# EAGLE library part MCP41010-I/SN (library userlib)
Digital potentiometer
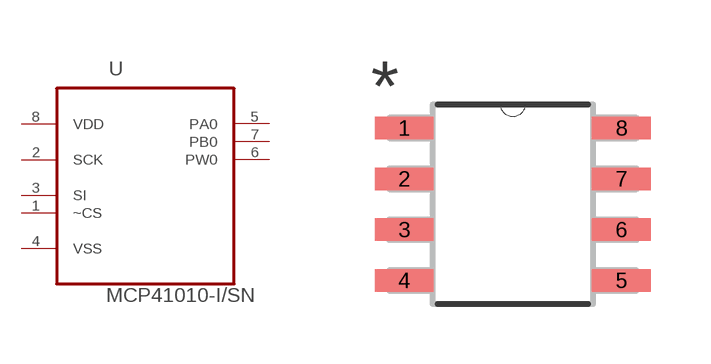
[diagram p19: symbol with the pads of SOIC127P600X175-8N; footprint SOIC127P600X175-8N]

Designator prefix -

## MCP41010-I/SN (DESCRIPTION: Digital potentiometer; MPN: MCP41010-I/SN; OC_FARNELL: 9758607; OC_NEWARK: 61K2949; PACKAGE: SOIC-8; SUPPLIER: Microchip)  [SOIC127P600X175-8N]
1  ~CS  in
2  SCK  in
3  SI  in
4  VSS  pas
5  PA0
6  PW0
7  PB0
8  VDD  pwr

## Footprint SOIC127P600X175-8N (pad centres in mm)
smd 1.473 x 0.559: 1 -2.718,1.905; 2 -2.718,0.635; 3 -2.718,-0.635; 4 -2.718,-1.905; 5 2.718,-1.905; 6 2.718,-0.635; 7 2.718,0.635; 8 2.718,1.905